# Altium integrated library RDER71H104K0S1H03A.IntLib: 1 symbol
Pins are listed as number, name and electrical type; pins without a type are passive.

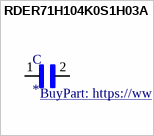
[diagram p0: symbol RDER71H104K0S1H03A]

## RDER71H104K0S1H03A
designator C
Lead capacitor X7R(EIA) with Capacitance 0.10F, Rated Voltage 50Vdc; MP: RDER71H104K0S1H03A; MF: Murata; Value: *; SnapEDA_Link: https://www.snapeda.com/parts/RDER71H104K0S1H03A/Murata/view-part/1758922/?ref=snap; Availability: Good; Mouser-Purchase-URL: https://snapeda.com/shop?store=Mouser&id=1758922; Price: None; DigiKey-Purchase-URL: https://snapeda.com/shop?store=DigiKey&id=1758922; Package: NONSTANDARD; BuyPart: https://www.snapeda.com/parts/RDER71H104K0S1H03A/Murata/view-part/1758922/?ref=eda
footprint CAP_RDER71H104K0S1H03A
pins: 1, 2